# Altium footprint library JUMPER3.PcbLib: 1 footprints
Each footprint in its own frame and in the unit in brackets; x right, y up, seen from the top. Pads: shape width x height; smd on the part's side, far side on the other; paste and mask are expansions set on the pad; w line width, h text height; cw(c..) or ccw(c..) is an arc to the next point about the centre after c.
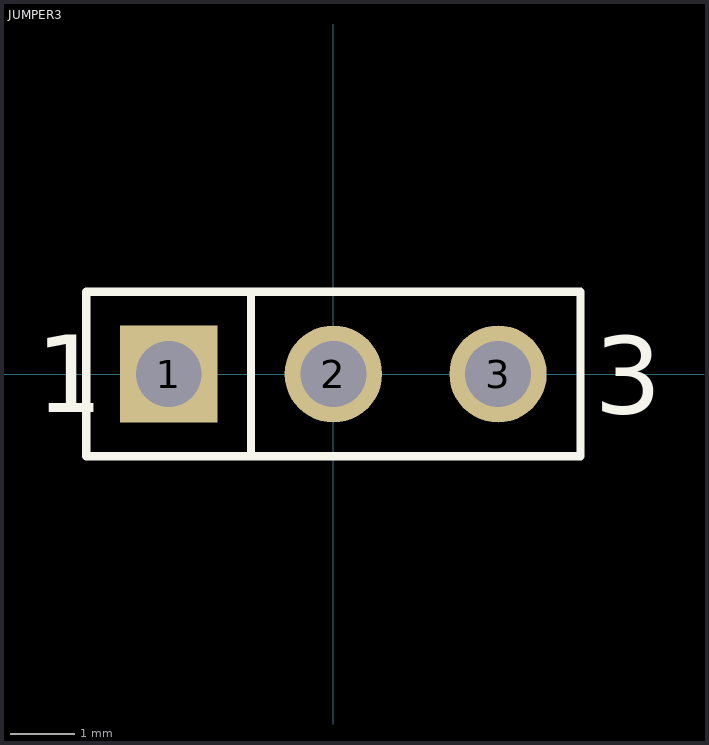
[diagram p0: the footprint, top view; thin cyan lines are the x and y axes]

## JUMPER3 [mm]
pads (3):
  rect 1.5x1.5 hole 1.016: 1(-2.54,0)
  round 1.5 hole 1.016: 2(0,0) 3(2.54,0)
Top Overlay:
  lines w0.127: -1.27,-1.27 -1.27,1.27 ; -3.81,-1.27 3.81,-1.27 3.81,1.27 -3.81,1.27 -3.81,-1.27
  text "3" at 4.026,-0.61 h1.2
  text "1" at -4.589,-0.594 h1.2
3D body: height 8.38, standoff -2.54, extent -3.81,-1.295 3.81,1.245
3D body: height 16.15, standoff 2.65, extent -3.795,-1.12 1.255,1.27